# Altium integrated library Silicon Labs Clocks and Oscillators.IntLib: 678 symbols (part 44 of 45)
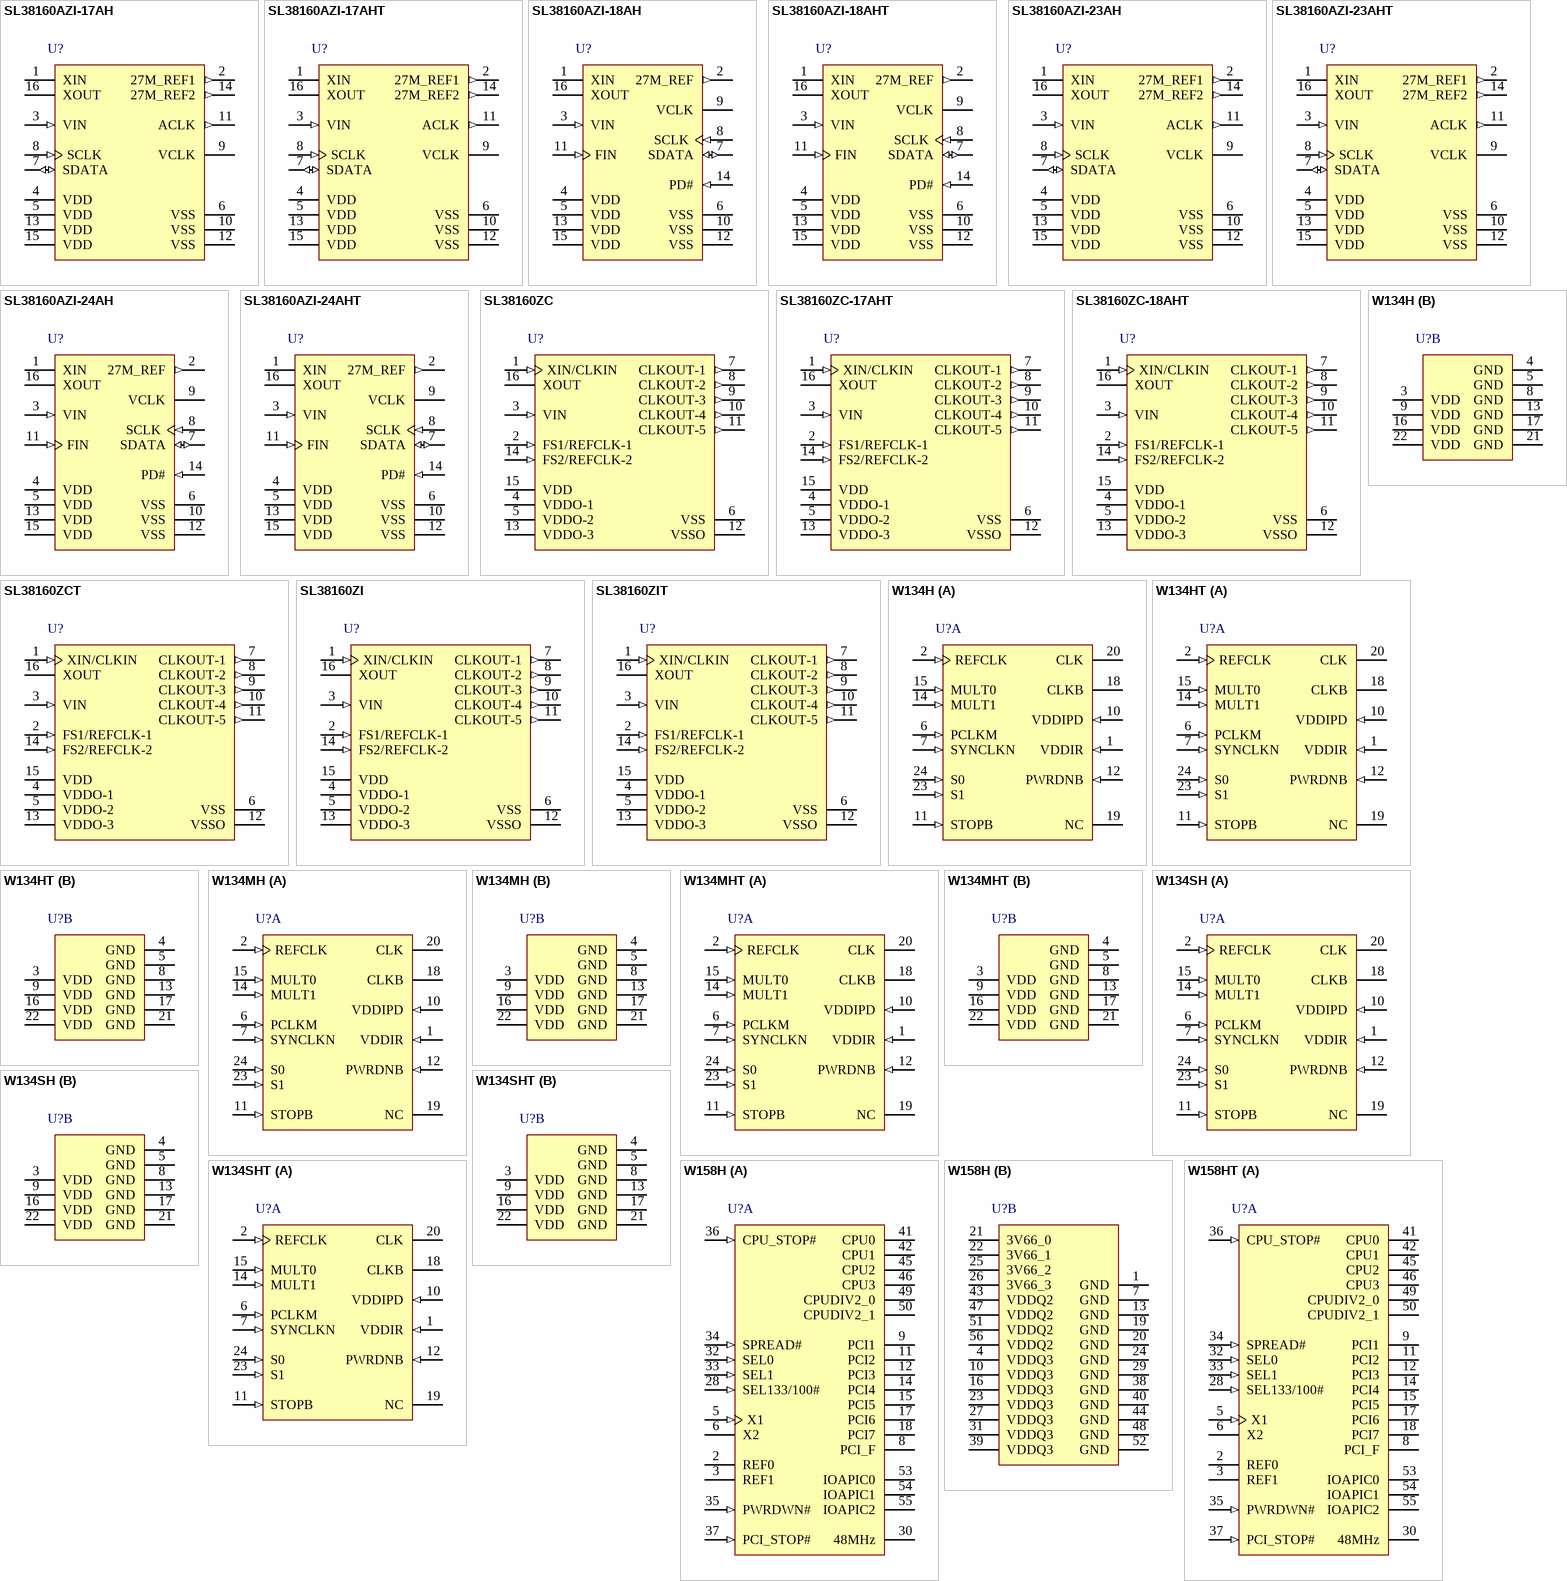
[diagram p87: symbols SL38160AZI-17AH to W158HT]

## SL38160AZI-18AHT
designator U?
Programmable Video CG with VCXO, 3.3 V, 200 MHz Max Output, -40 to 85 degC, 16-pin SOP, Tape and Reel; Manufacturer: Silicon Labs; PartNumber: SL38160AZI-18AHT; Output Format: LVCMOS; Output Frequency (MHz): 25 to 200; 27; Phase Jitter (RMS): > 1 ps; Reference Inputs: 2; VDD: 3.3 V; Sub-Family: Clock Generators; DatasheetVersion: Rev. AB; PackageReference: TSSOP-16; PackageDescription: 16-Pin Thin Shrink Small-Outline Package, Body 5 x 4.4 mm, Pitch 0.65 mm; Packing: Tape and Reel; Mounting Technology: Surface Mount; Code_JEDEC: MO-153; Code_IPC: J-STD-020C; ComponentLink1Description: Manufacturer URL; ComponentLink1URL: http://www.silabs.com/; ComponentLink2Description: Datasheet; ComponentLink2URL: http://www.silabs.com/Support%20Documents/TechnicalDocs/SL38160-18.pdf; ComponentLink3Description: Package Specification; ComponentLink3URL: http://www.silabs.com/Support%20Documents/TechnicalDocs/Si53360.pdf
footprint SLAB-TSSOP-16_N (SOP, 16-Leads, Body 5.1x4.5mm, Pitch 0.65mm, IPC Medium Density)
footprint SLAB-TSSOP-16_L (SOP, 16-Leads, Body 5.1x4.5mm, Pitch 0.65mm, IPC High Density)
footprint SLAB-TSSOP-16_M (SOP, 16-Leads, Body 5.1x4.5mm, Pitch 0.65mm, IPC Low Density)
pins: 1 XIN "Crystal oscillator input. Use fundamental parallel mode 27MHz crystal.", 2 27M_REF (out) "27 MHz reference clock output.", 3 VIN (in) "VCXO frequency control voltage", 4 VDD (power) "3.3V +/-10% Positive Power Supply.", 5 VDD (power) "3.3V +/-10% Positive Power Supply.", 6 VSS (power) "Power supply ground for VDD.", 7 SDATA (io) "I2C Serial Data", 8 SCLK (in) "I2C Clock", 9 VCLK (hiz) "Video clock output. (Default on) (Can be changed to off/high impedance state through I2C)", 10 VSS (power) "Power supply ground for VDD.", 11 FIN (in) "External 27 MHz reference clock input. (Crystal mode or external clock mode controlled through I2C)", 12 VSS (power) "Power supply ground for VDD.", 13 VDD (power) "3.3V +/-10% Positive Power Supply.", 14 PD# (in) "Power down control. 1 = normal operation, 0 = power down mode, all output clocks in low state. This pin features a 250 kohm pullup resistor.", 15 VDD (power) "3.3V +/-10% Positive Power Supply.", 16 XOUT "Crystal oscillator output. Use fundamental parallel mode 27MHz crystal."

## SL38160AZI-23AH
designator U?
Programmable Audio / Video CG with VCXO, 3.3 V, 27 MHz Max Output, -40 to 85 degC, 16-pin SOP, Tube; Manufacturer: Silicon Labs; PartNumber: SL38160AZI-23AH; Output Format: LVCMOS; Output Frequency (MHz): 8.19 to 49.15; 13.5 to 148.5; 27; Phase Jitter (RMS): > 1 ps; Reference Inputs: 1; VDD: 3.3 V; Sub-Family: Clock Generators; DatasheetVersion: Rev. AB; PackageReference: TSSOP-16; PackageDescription: 16-Pin Thin Shrink Small-Outline Package, Body 5 x 4.4 mm, Pitch 0.65 mm; Supplier 1: Mouser; Supplier Part Number 1: N/A; Packing: Tube; Mounting Technology: Surface Mount; Code_JEDEC: MO-153; Code_IPC: J-STD-020C; ComponentLink1Description: Manufacturer URL; ComponentLink1URL: http://www.silabs.com/; ComponentLink2Description: Datasheet; ComponentLink2URL: http://www.silabs.com/Support%20Documents/TechnicalDocs/SL38160-17.pdf; ComponentLink3Description: Package Specification; ComponentLink3URL: http://www.silabs.com/Support%20Documents/TechnicalDocs/Si53360.pdf
footprint SLAB-TSSOP-16_N (SOP, 16-Leads, Body 5.1x4.5mm, Pitch 0.65mm, IPC Medium Density)
footprint SLAB-TSSOP-16_L (SOP, 16-Leads, Body 5.1x4.5mm, Pitch 0.65mm, IPC High Density)
footprint SLAB-TSSOP-16_M (SOP, 16-Leads, Body 5.1x4.5mm, Pitch 0.65mm, IPC Low Density)
pins: 1 XIN "Crystal oscillator input. Use fundamental parallel mode 27MHz crystal.", 2 27M_REF1 (out) "27 MHz reference clock output 1. (Default on) (Can be changed to off/synchronous stop, pulled low to VSS, through I2C)", 3 VIN (in) "VCXO frequency control voltage", 4 VDD (power) "3.3V +/-10% Positive Power Supply.", 5 VDD (power) "3.3V +/-10% Positive Power Supply.", 6 VSS (power) "Power supply ground for VDD.", 7 SDATA (io) "I2C Serial Data", 8 SCLK (in) "I2C Clock", 9 VCLK (hiz) "Video clock output. (Default on) (Can be changed to off/high impedance state through I2C)", 10 VSS (power) "Power supply ground for VDD.", 11 ACLK (out) "Audio clock output .(Default on) (Can be changed to off/synchronous stop, pulled low to VSS, through I2C)", 12 VSS (power) "Power supply ground for VDD.", 13 VDD (power) "3.3V +/-10% Positive Power Supply.", 14 27M_REF2 (out) "27 MHz reference clock output 2. (Default on) (Can be changed to off/synchronous stop, pulled low to VSS, through I2C)", 15 VDD (power) "3.3V +/-10% Positive Power Supply.", 16 XOUT "Crystal oscillator output. Use fundamental parallel mode 27MHz crystal."

## SL38160AZI-23AHT
designator U?
Programmable Audio / Video CG with VCXO, 3.3 V, 27 MHz Max Output, -40 to 85 degC, 16-pin SOP, Tape and Reel; Manufacturer: Silicon Labs; PartNumber: SL38160AZI-23AHT; Output Format: LVCMOS; Output Frequency (MHz): 8.19 to 49.15; 13.5 to 148.5; 27; Phase Jitter (RMS): > 1 ps; Reference Inputs: 1; VDD: 3.3 V; Sub-Family: Clock Generators; DatasheetVersion: Rev. AB; PackageReference: TSSOP-16; PackageDescription: 16-Pin Thin Shrink Small-Outline Package, Body 5 x 4.4 mm, Pitch 0.65 mm; Supplier 1: Mouser; Supplier Part Number 1: N/A; Packing: Tape and Reel; Mounting Technology: Surface Mount; Code_JEDEC: MO-153; Code_IPC: J-STD-020C; ComponentLink1Description: Manufacturer URL; ComponentLink1URL: http://www.silabs.com/; ComponentLink2Description: Datasheet; ComponentLink2URL: http://www.silabs.com/Support%20Documents/TechnicalDocs/SL38160-17.pdf; ComponentLink3Description: Package Specification; ComponentLink3URL: http://www.silabs.com/Support%20Documents/TechnicalDocs/Si53360.pdf
footprint SLAB-TSSOP-16_N (SOP, 16-Leads, Body 5.1x4.5mm, Pitch 0.65mm, IPC Medium Density)
footprint SLAB-TSSOP-16_L (SOP, 16-Leads, Body 5.1x4.5mm, Pitch 0.65mm, IPC High Density)
footprint SLAB-TSSOP-16_M (SOP, 16-Leads, Body 5.1x4.5mm, Pitch 0.65mm, IPC Low Density)
pins: 1 XIN "Crystal oscillator input. Use fundamental parallel mode 27MHz crystal.", 2 27M_REF1 (out) "27 MHz reference clock output 1. (Default on) (Can be changed to off/synchronous stop, pulled low to VSS, through I2C)", 3 VIN (in) "VCXO frequency control voltage", 4 VDD (power) "3.3V +/-10% Positive Power Supply.", 5 VDD (power) "3.3V +/-10% Positive Power Supply.", 6 VSS (power) "Power supply ground for VDD.", 7 SDATA (io) "I2C Serial Data", 8 SCLK (in) "I2C Clock", 9 VCLK (hiz) "Video clock output. (Default on) (Can be changed to off/high impedance state through I2C)", 10 VSS (power) "Power supply ground for VDD.", 11 ACLK (out) "Audio clock output .(Default on) (Can be changed to off/synchronous stop, pulled low to VSS, through I2C)", 12 VSS (power) "Power supply ground for VDD.", 13 VDD (power) "3.3V +/-10% Positive Power Supply.", 14 27M_REF2 (out) "27 MHz reference clock output 2. (Default on) (Can be changed to off/synchronous stop, pulled low to VSS, through I2C)", 15 VDD (power) "3.3V +/-10% Positive Power Supply.", 16 XOUT "Crystal oscillator output. Use fundamental parallel mode 27MHz crystal."

## SL38160AZI-24AH
designator U?
Programmable Video CG with VCXO, 3.3 V, 200 MHz Max Output, -40 to 85 degC, 16-pin SOP, Tube; Manufacturer: Silicon Labs; PartNumber: SL38160AZI-24AH; Output Format: LVCMOS; Output Frequency (MHz): 25 to 200; 27; Phase Jitter (RMS): > 1 ps; Reference Inputs: 2; VDD: 3.3 V; Sub-Family: Clock Generators; DatasheetVersion: Rev. AB; PackageReference: TSSOP-16; PackageDescription: 16-Pin Thin Shrink Small-Outline Package, Body 5 x 4.4 mm, Pitch 0.65 mm; Packing: Tube; Mounting Technology: Surface Mount; Code_JEDEC: MO-153; Code_IPC: J-STD-020C; ComponentLink1Description: Manufacturer URL; ComponentLink1URL: http://www.silabs.com/; ComponentLink2Description: Datasheet; ComponentLink2URL: http://www.silabs.com/Support%20Documents/TechnicalDocs/SL38160-18.pdf; ComponentLink3Description: Package Specification; ComponentLink3URL: http://www.silabs.com/Support%20Documents/TechnicalDocs/Si53360.pdf
footprint SLAB-TSSOP-16_N (SOP, 16-Leads, Body 5.1x4.5mm, Pitch 0.65mm, IPC Medium Density)
footprint SLAB-TSSOP-16_L (SOP, 16-Leads, Body 5.1x4.5mm, Pitch 0.65mm, IPC High Density)
footprint SLAB-TSSOP-16_M (SOP, 16-Leads, Body 5.1x4.5mm, Pitch 0.65mm, IPC Low Density)
pins: 1 XIN "Crystal oscillator input. Use fundamental parallel mode 27MHz crystal.", 2 27M_REF (out) "27 MHz reference clock output.", 3 VIN (in) "VCXO frequency control voltage", 4 VDD (power) "3.3V +/-10% Positive Power Supply.", 5 VDD (power) "3.3V +/-10% Positive Power Supply.", 6 VSS (power) "Power supply ground for VDD.", 7 SDATA (io) "I2C Serial Data", 8 SCLK (in) "I2C Clock", 9 VCLK (hiz) "Video clock output. (Default on) (Can be changed to off/high impedance state through I2C)", 10 VSS (power) "Power supply ground for VDD.", 11 FIN (in) "External 27 MHz reference clock input. (Crystal mode or external clock mode controlled through I2C)", 12 VSS (power) "Power supply ground for VDD.", 13 VDD (power) "3.3V +/-10% Positive Power Supply.", 14 PD# (in) "Power down control. 1 = normal operation, 0 = power down mode, all output clocks in low state. This pin features a 250 kohm pullup resistor.", 15 VDD (power) "3.3V +/-10% Positive Power Supply.", 16 XOUT "Crystal oscillator output. Use fundamental parallel mode 27MHz crystal."

## SL38160AZI-24AHT
designator U?
Programmable Video CG with VCXO, 3.3 V, 200 MHz Max Output, -40 to 85 degC, 16-pin SOP, Tape and Reel; Manufacturer: Silicon Labs; PartNumber: SL38160AZI-24AHT; Output Format: LVCMOS; Output Frequency (MHz): 25 to 200; 27; Phase Jitter (RMS): > 1 ps; Reference Inputs: 2; VDD: 3.3 V; Sub-Family: Clock Generators; DatasheetVersion: Rev. AB; PackageReference: TSSOP-16; PackageDescription: 16-Pin Thin Shrink Small-Outline Package, Body 5 x 4.4 mm, Pitch 0.65 mm; Packing: Tape and Reel; Mounting Technology: Surface Mount; Code_JEDEC: MO-153; Code_IPC: J-STD-020C; ComponentLink1Description: Manufacturer URL; ComponentLink1URL: http://www.silabs.com/; ComponentLink2Description: Datasheet; ComponentLink2URL: http://www.silabs.com/Support%20Documents/TechnicalDocs/SL38160-18.pdf; ComponentLink3Description: Package Specification; ComponentLink3URL: http://www.silabs.com/Support%20Documents/TechnicalDocs/Si53360.pdf
footprint SLAB-TSSOP-16_N (SOP, 16-Leads, Body 5.1x4.5mm, Pitch 0.65mm, IPC Medium Density)
footprint SLAB-TSSOP-16_L (SOP, 16-Leads, Body 5.1x4.5mm, Pitch 0.65mm, IPC High Density)
footprint SLAB-TSSOP-16_M (SOP, 16-Leads, Body 5.1x4.5mm, Pitch 0.65mm, IPC Low Density)
pins: 1 XIN "Crystal oscillator input. Use fundamental parallel mode 27MHz crystal.", 2 27M_REF (out) "27 MHz reference clock output.", 3 VIN (in) "VCXO frequency control voltage", 4 VDD (power) "3.3V +/-10% Positive Power Supply.", 5 VDD (power) "3.3V +/-10% Positive Power Supply.", 6 VSS (power) "Power supply ground for VDD.", 7 SDATA (io) "I2C Serial Data", 8 SCLK (in) "I2C Clock", 9 VCLK (hiz) "Video clock output. (Default on) (Can be changed to off/high impedance state through I2C)", 10 VSS (power) "Power supply ground for VDD.", 11 FIN (in) "External 27 MHz reference clock input. (Crystal mode or external clock mode controlled through I2C)", 12 VSS (power) "Power supply ground for VDD.", 13 VDD (power) "3.3V +/-10% Positive Power Supply.", 14 PD# (in) "Power down control. 1 = normal operation, 0 = power down mode, all output clocks in low state. This pin features a 250 kohm pullup resistor.", 15 VDD (power) "3.3V +/-10% Positive Power Supply.", 16 XOUT "Crystal oscillator output. Use fundamental parallel mode 27MHz crystal."

## SL38160ZC
designator U?
Programmable 4-PLL CG with VCXO and SSCG, 1.8 / 2.5 / 3.3 V, 3 to 200 MHz Output, 0 to 70 degC, 16-pin SOP, Tube; Manufacturer: Silicon Labs; PartNumber: SL38160ZC; Output Format: LVCMOS; Output Frequency (MHz): 3 to 200; Phase Jitter (RMS): > 1 ps; Reference Inputs: 1; VDD: 1.8 V; 2.5 V; 3.3 V; Sub-Family: Clock Generators part3; DatasheetVersion: Rev. 1.1; PackageReference: TSSOP-16; PackageDescription: 16-Pin Thin Shrink Small-Outline Package, Body 5 x 4.4 mm, Pitch 0.65 mm; Supplier 1: Digi-Key; Supplier Part Number 1: SL38160ZC-ND; Supplier 2: Mouser; Supplier Part Number 2: 634-SL38160ZC; Packing: Tube; Mounting Technology: Surface Mount; ComponentLink1Description: Manufacturer URL; ComponentLink1URL: http://www.silabs.com/; ComponentLink2Description: Datasheet; ComponentLink2URL: http://www.silabs.com/Support%20Documents/TechnicalDocs/SL38160.pdf; ComponentLink3Description: Package Specification; ComponentLink3URL: http://www.silabs.com/Support%20Documents/TechnicalDocs/SL38160.pdf
footprint SLAB-TSSOP-16_B_N (SOP, 16-Leads, Body 5.1x4.5mm, Pitch 0.65mm, IPC Medium Density)
footprint SLAB-TSSOP-16_B_L (SOP, 16-Leads, Body 5.1x4.5mm, Pitch 0.65mm, IPC High Density)
footprint SLAB-TSSOP-16_B_M (SOP, 16-Leads, Body 5.1x4.5mm, Pitch 0.65mm, IPC Low Density)
pins: 1 XIN/CLKIN (in) "Crystal oscillator input in VCXO and Xo mode or external clock input in XO mode only. Oscillator powered by VDD.", 2 FS1/REFCLK-1 (in) "OE (output Enable).", 3 VIN (in) "VCXO control pin VIN. This pin is not used and is not connected (n/c) in crystal oscillator mode.", 4 VDDO-1 (power) "3.3V to 2.5V +/-10% Positive Power Supply. VDDO-1 powers clock output drivers for CLKOUT1/2. VDD>=VDDO.", 5 VDDO-2 (power) "3.3V to 2.5V +/-10% Positive Power Supply. VDDO-1 powers clock output driver for CLKOUT3. VDD>=VDDO.", 6 VSS (power) "VDD power ground.", 7 CLKOUT-1 (out) "Programmable clock output-1, this pin can be programmed as synthesized clock output with or without spread or REFOUT and is powered by VDD-1.", 8 CLKOUT-2 (out) "Programmable clock output-2, this pin can be programmed as synthesized clock output with or without spread or REFOUT and powered by VDDO-1.", 9 CLKOUT-3 (out) "Programmable clock output-3, this pin can be programmed as synthesized clock output with or without spread or REFOUT and powered by VDDO-2.", 10 CLKOUT-4 (out) "Programmable clock output-4, this pin can be programmed as synthesized clock output with or without spread or REFOUT and powered by VDDO-3.", 11 CLKOUT-5 (out) "Programmable clock output-5, this pin can be programmed as synthesized clock output with or without spread or REFOUT and powered by VDDO-3.", 12 VSSO (power) "VDDO-1/2/3 power ground.", 13 VDDO-3 (power) "3.3V to 2.5V +/-10% Positive Power Supply. VDD-2 powers clock output drivers for CLKOUT4/5. VDD>=VDDO.", 14 FS2/REFCLK-2 (in) "Function Select FS2 input. This pin can be programmed in XO mode as REFCLK which is the buffered output of input crystal or CLKIN.", 15 VDD (power) "3.3V to 2.5V +/-10% Positive Power Supply. Powers only digital core, PLLs and oscillator.", 16 XOUT "Crystal oscillator output. Oscillator powered by VDD."

## SL38160ZC-17AHT
designator U?
Programmable 4-PLL CG with VCXO and SSCG, 1.8 / 2.5 / 3.3 V, 3 to 200 MHz Output, 0 to 70 degC, 16-pin SOP, Tape and Reel; Manufacturer: Silicon Labs; PartNumber: SL38160ZC-17AHT; Output Format: LVCMOS; Output Frequency (MHz): 3 to 200; Phase Jitter (RMS): > 1 ps; Reference Inputs: 1; VDD: 1.8 V; 2.5 V; 3.3 V; Sub-Family: Clock Generators part3; DatasheetVersion: Rev. 1.1; PackageReference: TSSOP-16; PackageDescription: 16-Pin Thin Shrink Small-Outline Package, Body 5 x 4.4 mm, Pitch 0.65 mm; Supplier 1: Mouser; Supplier Part Number 1: 634-SL38160ZC-17AHT; Packing: Tape and Reel; Mounting Technology: Surface Mount; ComponentLink1Description: Manufacturer URL; ComponentLink1URL: http://www.silabs.com/; ComponentLink2Description: Datasheet; ComponentLink2URL: http://www.silabs.com/Support%20Documents/TechnicalDocs/SL38160.pdf; ComponentLink3Description: Package Specification; ComponentLink3URL: http://www.silabs.com/Support%20Documents/TechnicalDocs/SL38160.pdf
footprint SLAB-TSSOP-16_B_N (SOP, 16-Leads, Body 5.1x4.5mm, Pitch 0.65mm, IPC Medium Density)
footprint SLAB-TSSOP-16_B_L (SOP, 16-Leads, Body 5.1x4.5mm, Pitch 0.65mm, IPC High Density)
footprint SLAB-TSSOP-16_B_M (SOP, 16-Leads, Body 5.1x4.5mm, Pitch 0.65mm, IPC Low Density)
pins: 1 XIN/CLKIN (in) "Crystal oscillator input in VCXO and Xo mode or external clock input in XO mode only. Oscillator powered by VDD.", 2 FS1/REFCLK-1 (in) "OE (output Enable).", 3 VIN (in) "VCXO control pin VIN. This pin is not used and is not connected (n/c) in crystal oscillator mode.", 4 VDDO-1 (power) "3.3V to 2.5V +/-10% Positive Power Supply. VDDO-1 powers clock output drivers for CLKOUT1/2. VDD>=VDDO.", 5 VDDO-2 (power) "3.3V to 2.5V +/-10% Positive Power Supply. VDDO-1 powers clock output driver for CLKOUT3. VDD>=VDDO.", 6 VSS (power) "VDD power ground.", 7 CLKOUT-1 (out) "Programmable clock output-1, this pin can be programmed as synthesized clock output with or without spread or REFOUT and is powered by VDD-1.", 8 CLKOUT-2 (out) "Programmable clock output-2, this pin can be programmed as synthesized clock output with or without spread or REFOUT and powered by VDDO-1.", 9 CLKOUT-3 (out) "Programmable clock output-3, this pin can be programmed as synthesized clock output with or without spread or REFOUT and powered by VDDO-2.", 10 CLKOUT-4 (out) "Programmable clock output-4, this pin can be programmed as synthesized clock output with or without spread or REFOUT and powered by VDDO-3.", 11 CLKOUT-5 (out) "Programmable clock output-5, this pin can be programmed as synthesized clock output with or without spread or REFOUT and powered by VDDO-3.", 12 VSSO (power) "VDDO-1/2/3 power ground.", 13 VDDO-3 (power) "3.3V to 2.5V +/-10% Positive Power Supply. VDD-2 powers clock output drivers for CLKOUT4/5. VDD>=VDDO.", 14 FS2/REFCLK-2 (in) "Function Select FS2 input. This pin can be programmed in XO mode as REFCLK which is the buffered output of input crystal or CLKIN.", 15 VDD (power) "3.3V to 2.5V +/-10% Positive Power Supply. Powers only digital core, PLLs and oscillator.", 16 XOUT "Crystal oscillator output. Oscillator powered by VDD."

## SL38160ZC-18AHT
designator U?
Programmable 4-PLL CG with VCXO and SSCG, 1.8 / 2.5 / 3.3 V, 3 to 200 MHz Output, 0 to 70 degC, 16-pin SOP, Tape and Reel; Manufacturer: Silicon Labs; PartNumber: SL38160ZC-18AHT; Output Format: LVCMOS; Output Frequency (MHz): 3 to 200; Phase Jitter (RMS): > 1 ps; Reference Inputs: 1; VDD: 1.8 V; 2.5 V; 3.3 V; Sub-Family: Clock Generators part3; DatasheetVersion: Rev. 1.1; PackageReference: TSSOP-16; PackageDescription: 16-Pin Thin Shrink Small-Outline Package, Body 5 x 4.4 mm, Pitch 0.65 mm; Supplier 1: Mouser; Supplier Part Number 1: 634-SL38160ZC-18AHT; Packing: Tape and Reel; Mounting Technology: Surface Mount; ComponentLink1Description: Manufacturer URL; ComponentLink1URL: http://www.silabs.com/; ComponentLink2Description: Datasheet; ComponentLink2URL: http://www.silabs.com/Support%20Documents/TechnicalDocs/SL38160.pdf; ComponentLink3Description: Package Specification; ComponentLink3URL: http://www.silabs.com/Support%20Documents/TechnicalDocs/SL38160.pdf
footprint SLAB-TSSOP-16_B_N (SOP, 16-Leads, Body 5.1x4.5mm, Pitch 0.65mm, IPC Medium Density)
footprint SLAB-TSSOP-16_B_L (SOP, 16-Leads, Body 5.1x4.5mm, Pitch 0.65mm, IPC High Density)
footprint SLAB-TSSOP-16_B_M (SOP, 16-Leads, Body 5.1x4.5mm, Pitch 0.65mm, IPC Low Density)
pins: 1 XIN/CLKIN (in) "Crystal oscillator input in VCXO and Xo mode or external clock input in XO mode only. Oscillator powered by VDD.", 2 FS1/REFCLK-1 (in) "OE (output Enable).", 3 VIN (in) "VCXO control pin VIN. This pin is not used and is not connected (n/c) in crystal oscillator mode.", 4 VDDO-1 (power) "3.3V to 2.5V +/-10% Positive Power Supply. VDDO-1 powers clock output drivers for CLKOUT1/2. VDD>=VDDO.", 5 VDDO-2 (power) "3.3V to 2.5V +/-10% Positive Power Supply. VDDO-1 powers clock output driver for CLKOUT3. VDD>=VDDO.", 6 VSS (power) "VDD power ground.", 7 CLKOUT-1 (out) "Programmable clock output-1, this pin can be programmed as synthesized clock output with or without spread or REFOUT and is powered by VDD-1.", 8 CLKOUT-2 (out) "Programmable clock output-2, this pin can be programmed as synthesized clock output with or without spread or REFOUT and powered by VDDO-1.", 9 CLKOUT-3 (out) "Programmable clock output-3, this pin can be programmed as synthesized clock output with or without spread or REFOUT and powered by VDDO-2.", 10 CLKOUT-4 (out) "Programmable clock output-4, this pin can be programmed as synthesized clock output with or without spread or REFOUT and powered by VDDO-3.", 11 CLKOUT-5 (out) "Programmable clock output-5, this pin can be programmed as synthesized clock output with or without spread or REFOUT and powered by VDDO-3.", 12 VSSO (power) "VDDO-1/2/3 power ground.", 13 VDDO-3 (power) "3.3V to 2.5V +/-10% Positive Power Supply. VDD-2 powers clock output drivers for CLKOUT4/5. VDD>=VDDO.", 14 FS2/REFCLK-2 (in) "Function Select FS2 input. This pin can be programmed in XO mode as REFCLK which is the buffered output of input crystal or CLKIN.", 15 VDD (power) "3.3V to 2.5V +/-10% Positive Power Supply. Powers only digital core, PLLs and oscillator.", 16 XOUT "Crystal oscillator output. Oscillator powered by VDD."

## SL38160ZCT
designator U?
Programmable 4-PLL CG with VCXO and SSCG, 1.8 / 2.5 / 3.3 V, 3 to 200 MHz Output, 0 to 70 degC, 16-pin SOP, Tape and Reel; Manufacturer: Silicon Labs; PartNumber: SL38160ZCT; Output Format: LVCMOS; Output Frequency (MHz): 3 to 200; Phase Jitter (RMS): > 1 ps; Reference Inputs: 1; VDD: 1.8 V; 2.5 V; 3.3 V; Sub-Family: Clock Generators part3; DatasheetVersion: Rev. 1.1; PackageReference: TSSOP-16; PackageDescription: 16-Pin Thin Shrink Small-Outline Package, Body 5 x 4.4 mm, Pitch 0.65 mm; Supplier 1: Digi-Key; Supplier Part Number 1: SL38160ZCT-ND; Supplier 2: Mouser; Supplier Part Number 2: 634-SL38160ZCT; Packing: Tape and Reel; Mounting Technology: Surface Mount; ComponentLink1Description: Manufacturer URL; ComponentLink1URL: http://www.silabs.com/; ComponentLink2Description: Datasheet; ComponentLink2URL: http://www.silabs.com/Support%20Documents/TechnicalDocs/SL38160.pdf; ComponentLink3Description: Package Specification; ComponentLink3URL: http://www.silabs.com/Support%20Documents/TechnicalDocs/SL38160.pdf
footprint SLAB-TSSOP-16_B_N (SOP, 16-Leads, Body 5.1x4.5mm, Pitch 0.65mm, IPC Medium Density)
footprint SLAB-TSSOP-16_B_L (SOP, 16-Leads, Body 5.1x4.5mm, Pitch 0.65mm, IPC High Density)
footprint SLAB-TSSOP-16_B_M (SOP, 16-Leads, Body 5.1x4.5mm, Pitch 0.65mm, IPC Low Density)
pins: 1 XIN/CLKIN (in) "Crystal oscillator input in VCXO and Xo mode or external clock input in XO mode only. Oscillator powered by VDD.", 2 FS1/REFCLK-1 (in) "OE (output Enable).", 3 VIN (in) "VCXO control pin VIN. This pin is not used and is not connected (n/c) in crystal oscillator mode.", 4 VDDO-1 (power) "3.3V to 2.5V +/-10% Positive Power Supply. VDDO-1 powers clock output drivers for CLKOUT1/2. VDD>=VDDO.", 5 VDDO-2 (power) "3.3V to 2.5V +/-10% Positive Power Supply. VDDO-1 powers clock output driver for CLKOUT3. VDD>=VDDO.", 6 VSS (power) "VDD power ground.", 7 CLKOUT-1 (out) "Programmable clock output-1, this pin can be programmed as synthesized clock output with or without spread or REFOUT and is powered by VDD-1.", 8 CLKOUT-2 (out) "Programmable clock output-2, this pin can be programmed as synthesized clock output with or without spread or REFOUT and powered by VDDO-1.", 9 CLKOUT-3 (out) "Programmable clock output-3, this pin can be programmed as synthesized clock output with or without spread or REFOUT and powered by VDDO-2.", 10 CLKOUT-4 (out) "Programmable clock output-4, this pin can be programmed as synthesized clock output with or without spread or REFOUT and powered by VDDO-3.", 11 CLKOUT-5 (out) "Programmable clock output-5, this pin can be programmed as synthesized clock output with or without spread or REFOUT and powered by VDDO-3.", 12 VSSO (power) "VDDO-1/2/3 power ground.", 13 VDDO-3 (power) "3.3V to 2.5V +/-10% Positive Power Supply. VDD-2 powers clock output drivers for CLKOUT4/5. VDD>=VDDO.", 14 FS2/REFCLK-2 (in) "Function Select FS2 input. This pin can be programmed in XO mode as REFCLK which is the buffered output of input crystal or CLKIN.", 15 VDD (power) "3.3V to 2.5V +/-10% Positive Power Supply. Powers only digital core, PLLs and oscillator.", 16 XOUT "Crystal oscillator output. Oscillator powered by VDD."

## SL38160ZI
designator U?
Programmable 4-PLL CG with VCXO and SSCG, 1.8 / 2.5 / 3.3 V, 3 to 200 MHz Output, -40 to 85 degC, 16-pin SOP, Tube; Manufacturer: Silicon Labs; PartNumber: SL38160ZI; Output Format: LVCMOS; Output Frequency (MHz): 3 to 200; Phase Jitter (RMS): > 1 ps; Reference Inputs: 1; VDD: 1.8 V; 2.5 V; 3.3 V; Sub-Family: Clock Generators part3; DatasheetVersion: Rev. 1.1; PackageReference: TSSOP-16; PackageDescription: 16-Pin Thin Shrink Small-Outline Package, Body 5 x 4.4 mm, Pitch 0.65 mm; Supplier 1: Digi-Key; Supplier Part Number 1: SL38160ZI-ND; Supplier 2: Mouser; Supplier Part Number 2: 634-SL38160ZI; Packing: Tube; Mounting Technology: Surface Mount; ComponentLink1Description: Manufacturer URL; ComponentLink1URL: http://www.silabs.com/; ComponentLink2Description: Datasheet; ComponentLink2URL: http://www.silabs.com/Support%20Documents/TechnicalDocs/SL38160.pdf; ComponentLink3Description: Package Specification; ComponentLink3URL: http://www.silabs.com/Support%20Documents/TechnicalDocs/SL38160.pdf
footprint SLAB-TSSOP-16_B_N (SOP, 16-Leads, Body 5.1x4.5mm, Pitch 0.65mm, IPC Medium Density)
footprint SLAB-TSSOP-16_B_L (SOP, 16-Leads, Body 5.1x4.5mm, Pitch 0.65mm, IPC High Density)
footprint SLAB-TSSOP-16_B_M (SOP, 16-Leads, Body 5.1x4.5mm, Pitch 0.65mm, IPC Low Density)
pins: 1 XIN/CLKIN (in) "Crystal oscillator input in VCXO and Xo mode or external clock input in XO mode only. Oscillator powered by VDD.", 2 FS1/REFCLK-1 (in) "OE (output Enable).", 3 VIN (in) "VCXO control pin VIN. This pin is not used and is not connected (n/c) in crystal oscillator mode.", 4 VDDO-1 (power) "3.3V to 2.5V +/-10% Positive Power Supply. VDDO-1 powers clock output drivers for CLKOUT1/2. VDD>=VDDO.", 5 VDDO-2 (power) "3.3V to 2.5V +/-10% Positive Power Supply. VDDO-1 powers clock output driver for CLKOUT3. VDD>=VDDO.", 6 VSS (power) "VDD power ground.", 7 CLKOUT-1 (out) "Programmable clock output-1, this pin can be programmed as synthesized clock output with or without spread or REFOUT and is powered by VDD-1.", 8 CLKOUT-2 (out) "Programmable clock output-2, this pin can be programmed as synthesized clock output with or without spread or REFOUT and powered by VDDO-1.", 9 CLKOUT-3 (out) "Programmable clock output-3, this pin can be programmed as synthesized clock output with or without spread or REFOUT and powered by VDDO-2.", 10 CLKOUT-4 (out) "Programmable clock output-4, this pin can be programmed as synthesized clock output with or without spread or REFOUT and powered by VDDO-3.", 11 CLKOUT-5 (out) "Programmable clock output-5, this pin can be programmed as synthesized clock output with or without spread or REFOUT and powered by VDDO-3.", 12 VSSO (power) "VDDO-1/2/3 power ground.", 13 VDDO-3 (power) "3.3V to 2.5V +/-10% Positive Power Supply. VDD-2 powers clock output drivers for CLKOUT4/5. VDD>=VDDO.", 14 FS2/REFCLK-2 (in) "Function Select FS2 input. This pin can be programmed in XO mode as REFCLK which is the buffered output of input crystal or CLKIN.", 15 VDD (power) "3.3V to 2.5V +/-10% Positive Power Supply. Powers only digital core, PLLs and oscillator.", 16 XOUT "Crystal oscillator output. Oscillator powered by VDD."

## SL38160ZIT
designator U?
Programmable 4-PLL CG with VCXO and SSCG, 1.8 / 2.5 / 3.3 V, 3 to 200 MHz Output, -40 to 85 degC, 16-pin SOP, Tape and Reel; Manufacturer: Silicon Labs; PartNumber: SL38160ZIT; Output Format: LVCMOS; Output Frequency (MHz): 3 to 200; Phase Jitter (RMS): > 1 ps; Reference Inputs: 1; VDD: 1.8 V; 2.5 V; 3.3 V; Sub-Family: Clock Generators part3; DatasheetVersion: Rev. 1.1; PackageReference: TSSOP-16; PackageDescription: 16-Pin Thin Shrink Small-Outline Package, Body 5 x 4.4 mm, Pitch 0.65 mm; Supplier 1: Digi-Key; Supplier Part Number 1: SL38160ZIT-ND; Supplier 2: Mouser; Supplier Part Number 2: 634-SL38160ZIT; Packing: Tape and Reel; Mounting Technology: Surface Mount; ComponentLink1Description: Manufacturer URL; ComponentLink1URL: http://www.silabs.com/; ComponentLink2Description: Datasheet; ComponentLink2URL: http://www.silabs.com/Support%20Documents/TechnicalDocs/SL38160.pdf; ComponentLink3Description: Package Specification; ComponentLink3URL: http://www.silabs.com/Support%20Documents/TechnicalDocs/SL38160.pdf
footprint SLAB-TSSOP-16_B_N (SOP, 16-Leads, Body 5.1x4.5mm, Pitch 0.65mm, IPC Medium Density)
footprint SLAB-TSSOP-16_B_L (SOP, 16-Leads, Body 5.1x4.5mm, Pitch 0.65mm, IPC High Density)
footprint SLAB-TSSOP-16_B_M (SOP, 16-Leads, Body 5.1x4.5mm, Pitch 0.65mm, IPC Low Density)
pins: 1 XIN/CLKIN (in) "Crystal oscillator input in VCXO and Xo mode or external clock input in XO mode only. Oscillator powered by VDD.", 2 FS1/REFCLK-1 (in) "OE (output Enable).", 3 VIN (in) "VCXO control pin VIN. This pin is not used and is not connected (n/c) in crystal oscillator mode.", 4 VDDO-1 (power) "3.3V to 2.5V +/-10% Positive Power Supply. VDDO-1 powers clock output drivers for CLKOUT1/2. VDD>=VDDO.", 5 VDDO-2 (power) "3.3V to 2.5V +/-10% Positive Power Supply. VDDO-1 powers clock output driver for CLKOUT3. VDD>=VDDO.", 6 VSS (power) "VDD power ground.", 7 CLKOUT-1 (out) "Programmable clock output-1, this pin can be programmed as synthesized clock output with or without spread or REFOUT and is powered by VDD-1.", 8 CLKOUT-2 (out) "Programmable clock output-2, this pin can be programmed as synthesized clock output with or without spread or REFOUT and powered by VDDO-1.", 9 CLKOUT-3 (out) "Programmable clock output-3, this pin can be programmed as synthesized clock output with or without spread or REFOUT and powered by VDDO-2.", 10 CLKOUT-4 (out) "Programmable clock output-4, this pin can be programmed as synthesized clock output with or without spread or REFOUT and powered by VDDO-3.", 11 CLKOUT-5 (out) "Programmable clock output-5, this pin can be programmed as synthesized clock output with or without spread or REFOUT and powered by VDDO-3.", 12 VSSO (power) "VDDO-1/2/3 power ground.", 13 VDDO-3 (power) "3.3V to 2.5V +/-10% Positive Power Supply. VDD-2 powers clock output drivers for CLKOUT4/5. VDD>=VDDO.", 14 FS2/REFCLK-2 (in) "Function Select FS2 input. This pin can be programmed in XO mode as REFCLK which is the buffered output of input crystal or CLKIN.", 15 VDD (power) "3.3V to 2.5V +/-10% Positive Power Supply. Powers only digital core, PLLs and oscillator.", 16 XOUT "Crystal oscillator output. Oscillator powered by VDD."

## W134H
designator U?
Direct Rambus(TM) Clock Generator, 3.3 V, 25 to 400 MHz Output, 0 to 70 degC, 24-pin SOP; Manufacturer: Silicon Labs; PartNumber: W134H; Output Format: RSL; Reference Inputs: 1; VDD: 3.3 V; Sub-Family: Clock Generators; DatasheetVersion: Rev. *C; PackageReference: QSOP-24; PackageDescription: 24-Pin Quarter-Size Small-Outline Package, Body 8.65 x 3.9 mm, Pitch 0.635 mm; Output Frequency (MHz): 25 to 400; Mounting Technology: Surface Mount; ComponentLink1Description: Manufacturer URL; ComponentLink1URL: http://www.silabs.com/; ComponentLink2Description: Datasheet; ComponentLink2URL: http://www.silabs.com/Support%20Documents/TechnicalDocs/W134.pdf; ComponentLink3Description: Package Specification; ComponentLink3URL: http://www.silabs.com/Support%20Documents/TechnicalDocs/W134.pdf
footprint SLAB-QSOP-24_A_N (SOP, 24-Leads, Body 8.7x4mm, Pitch 0.635mm, IPC Medium Density)
footprint SLAB-QSOP-24_A_L (SOP, 24-Leads, Body 8.7x4mm, Pitch 0.635mm, IPC High Density)
footprint SLAB-QSOP-24_A_M (SOP, 24-Leads, Body 8.7x4mm, Pitch 0.635mm, IPC Low Density)
part A pins: 1 VDDIR (in) "Reference for REFCLK.", 2 REFCLK (in) "Reference Clock Input.", 6 PCLKM (in) "Phase Detector Input.", 7 SYNCLKN (in) "Phase Detector Input", 10 VDDIPD (in) "Reference for Phase Detector.", 11 STOPB (in) "Clock Output Enable.", 12 PWRDNB (in) "Active LOW Power-down.", 14 MULT1 (in) "PLL Multiplier Select.", 15 MULT0 (in) "PLL Multiplier Select.", 18 CLKB (hiz) "Complementary Output Clock", 19 NC "No Connect", 20 CLK (hiz) "Complementary Output Clock", 23 S1 (in) "Mode Control Input", 24 S0 (in) "Mode Control Input"
part B pins: 3 VDD (power) "Power Connection", 4 GND (power) "Ground Connection.", 5 GND (power) "Ground Connection.", 8 GND (power) "Ground Connection.", 9 VDD (power) "Power Connection", 13 GND (power) "Ground Connection.", 16 VDD (power) "Power Connection", 17 GND (power) "Ground Connection.", 21 GND (power) "Ground Connection.", 22 VDD (power) "Power Connection"

## W134HT
designator U?
Direct Rambus(TM) Clock Generator, 3.3 V, 25 to 400 MHz Output, 0 to 70 degC, 24-pin SOP, Tape and Reel; Manufacturer: Silicon Labs; PartNumber: W134HT; Output Format: RSL; Phase Jitter (RMS): > 1 ps; Reference Inputs: 1; VDD: 3.3 V; Sub-Family: Clock Generators; DatasheetVersion: Rev. *C; PackageReference: QSOP-24; PackageDescription: 24-Pin Quarter-Size Small-Outline Package, Body 8.65 x 3.9 mm, Pitch 0.635 mm; Output Frequency (MHz): 25 to 400; Packing: Tape and Reel; Mounting Technology: Surface Mount; ComponentLink1Description: Manufacturer URL; ComponentLink1URL: http://www.silabs.com/; ComponentLink2Description: Datasheet; ComponentLink2URL: http://www.silabs.com/Support%20Documents/TechnicalDocs/W134.pdf; ComponentLink3Description: Package Specification; ComponentLink3URL: http://www.silabs.com/Support%20Documents/TechnicalDocs/W134.pdf
footprint SLAB-QSOP-24_A_N (SOP, 24-Leads, Body 8.7x4mm, Pitch 0.635mm, IPC Medium Density)
footprint SLAB-QSOP-24_A_L (SOP, 24-Leads, Body 8.7x4mm, Pitch 0.635mm, IPC High Density)
footprint SLAB-QSOP-24_A_M (SOP, 24-Leads, Body 8.7x4mm, Pitch 0.635mm, IPC Low Density)
part A pins: 1 VDDIR (in) "Reference for REFCLK.", 2 REFCLK (in) "Reference Clock Input.", 6 PCLKM (in) "Phase Detector Input.", 7 SYNCLKN (in) "Phase Detector Input", 10 VDDIPD (in) "Reference for Phase Detector.", 11 STOPB (in) "Clock Output Enable.", 12 PWRDNB (in) "Active LOW Power-down.", 14 MULT1 (in) "PLL Multiplier Select.", 15 MULT0 (in) "PLL Multiplier Select.", 18 CLKB (hiz) "Complementary Output Clock", 19 NC "No Connect", 20 CLK (hiz) "Complementary Output Clock", 23 S1 (in) "Mode Control Input", 24 S0 (in) "Mode Control Input"
part B pins: 3 VDD (power) "Power Connection", 4 GND (power) "Ground Connection.", 5 GND (power) "Ground Connection.", 8 GND (power) "Ground Connection.", 9 VDD (power) "Power Connection", 13 GND (power) "Ground Connection.", 16 VDD (power) "Power Connection", 17 GND (power) "Ground Connection.", 21 GND (power) "Ground Connection.", 22 VDD (power) "Power Connection"

## W134MH
designator U?
Direct Rambus(TM) Clock Generator, 3.3 V, 25 to 400 MHz Output, 0 to 70 degC, 24-pin SOP; Manufacturer: Silicon Labs; PartNumber: W134MH; Output Format: RSL; Reference Inputs: 1; VDD: 3.3 V; Sub-Family: Clock Generators part2; DatasheetVersion: Rev. *C; PackageReference: QSOP-24; PackageDescription: 24-Pin Quarter-Size Small-Outline Package, Body 8.65 x 3.9 mm, Pitch 0.635 mm; Supplier 1: Digi-Key; Supplier Part Number 1: SLW134MH-ND; Supplier 2: Mouser; Supplier Part Number 2: 634-W134MH; Output Frequency (MHz): 25 to 400; Mounting Technology: Surface Mount; Code_JEDEC: MO-147; Code_IPC: J-STD-020; ComponentLink1Description: Manufacturer URL; ComponentLink1URL: http://www.silabs.com/; ComponentLink2Description: Datasheet; ComponentLink2URL: http://www.silabs.com/Support%20Documents/TechnicalDocs/W134.pdf; ComponentLink3Description: Package Specification; ComponentLink3URL: http://www.silabs.com/Support%20Documents/TechnicalDocs/C8051F99x.pdf
footprint SLAB-QSOP-24_N (SOP, 24-Leads, Body 8.65x3.9mm, Pitch 0.635mm, IPC Medium Density)
footprint SLAB-QSOP-24_L (SOP, 24-Leads, Body 8.65x3.9mm, Pitch 0.635mm, IPC High Density)
footprint SLAB-QSOP-24_M (SOP, 24-Leads, Body 8.65x3.9mm, Pitch 0.635mm, IPC Low Density)
part A pins: 1 VDDIR (in) "Reference for REFCLK.", 2 REFCLK (in) "Reference Clock Input.", 6 PCLKM (in) "Phase Detector Input.", 7 SYNCLKN (in) "Phase Detector Input", 10 VDDIPD (in) "Reference for Phase Detector.", 11 STOPB (in) "Clock Output Enable.", 12 PWRDNB (in) "Active LOW Power-down.", 14 MULT1 (in) "PLL Multiplier Select.", 15 MULT0 (in) "PLL Multiplier Select.", 18 CLKB (hiz) "Complementary Output Clock", 19 NC "No Connect", 20 CLK (hiz) "Complementary Output Clock", 23 S1 (in) "Mode Control Input", 24 S0 (in) "Mode Control Input"
part B pins: 3 VDD (power) "Power Connection", 4 GND (power) "Ground Connection.", 5 GND (power) "Ground Connection.", 8 GND (power) "Ground Connection.", 9 VDD (power) "Power Connection", 13 GND (power) "Ground Connection.", 16 VDD (power) "Power Connection", 17 GND (power) "Ground Connection.", 21 GND (power) "Ground Connection.", 22 VDD (power) "Power Connection"

## W134MHT
designator U?
Direct Rambus(TM) Clock Generator, 3.3 V, 25 to 400 MHz Output, 0 to 70 degC, 24-pin SOP, Tape and Reel; Manufacturer: Silicon Labs; PartNumber: W134MHT; Output Format: RSL; Phase Jitter (RMS): > 1 ps; Reference Inputs: 1; VDD: 3.3 V; Sub-Family: Clock Generators part2; DatasheetVersion: Rev. *C; PackageReference: QSOP-24; PackageDescription: 24-Pin Quarter-Size Small-Outline Package, Body 8.65 x 3.9 mm, Pitch 0.635 mm; Supplier 1: Digi-Key; Supplier Part Number 1: W134MHT-ND; Supplier 2: Mouser; Supplier Part Number 2: 634-W134MHT; Output Frequency (MHz): 25 to 400; Packing: Tape and Reel; Mounting Technology: Surface Mount; Code_JEDEC: MO-147; Code_IPC: J-STD-020; ComponentLink1Description: Manufacturer URL; ComponentLink1URL: http://www.silabs.com/; ComponentLink2Description: Datasheet; ComponentLink2URL: http://www.silabs.com/Support%20Documents/TechnicalDocs/W134.pdf; ComponentLink3Description: Package Specification; ComponentLink3URL: http://www.silabs.com/Support%20Documents/TechnicalDocs/C8051F99x.pdf
footprint SLAB-QSOP-24_N (SOP, 24-Leads, Body 8.65x3.9mm, Pitch 0.635mm, IPC Medium Density)
footprint SLAB-QSOP-24_L (SOP, 24-Leads, Body 8.65x3.9mm, Pitch 0.635mm, IPC High Density)
footprint SLAB-QSOP-24_M (SOP, 24-Leads, Body 8.65x3.9mm, Pitch 0.635mm, IPC Low Density)
part A pins: 1 VDDIR (in) "Reference for REFCLK.", 2 REFCLK (in) "Reference Clock Input.", 6 PCLKM (in) "Phase Detector Input.", 7 SYNCLKN (in) "Phase Detector Input", 10 VDDIPD (in) "Reference for Phase Detector.", 11 STOPB (in) "Clock Output Enable.", 12 PWRDNB (in) "Active LOW Power-down.", 14 MULT1 (in) "PLL Multiplier Select.", 15 MULT0 (in) "PLL Multiplier Select.", 18 CLKB (hiz) "Complementary Output Clock", 19 NC "No Connect", 20 CLK (hiz) "Complementary Output Clock", 23 S1 (in) "Mode Control Input", 24 S0 (in) "Mode Control Input"
part B pins: 3 VDD (power) "Power Connection", 4 GND (power) "Ground Connection.", 5 GND (power) "Ground Connection.", 8 GND (power) "Ground Connection.", 9 VDD (power) "Power Connection", 13 GND (power) "Ground Connection.", 16 VDD (power) "Power Connection", 17 GND (power) "Ground Connection.", 21 GND (power) "Ground Connection.", 22 VDD (power) "Power Connection"

## W134SH
designator U?
Direct Rambus(TM) Clock Generator, 3.3 V, 25 to 400 MHz Output, 0 to 70 degC, 24-pin SOP; Manufacturer: Silicon Labs; PartNumber: W134SH; Output Format: RSL; Reference Inputs: 1; VDD: 3.3 V; Sub-Family: Clock Generators; DatasheetVersion: Rev. *C; PackageReference: QSOP-24; PackageDescription: 24-Pin Quarter-Size Small-Outline Package, Body 8.65 x 3.9 mm, Pitch 0.635 mm; Supplier 1: Digi-Key; Supplier Part Number 1: SLW134SH-ND; Supplier 2: Mouser; Supplier Part Number 2: 634-W134SH; Output Frequency (MHz): 25 to 400; Mounting Technology: Surface Mount; ComponentLink1Description: Manufacturer URL; ComponentLink1URL: http://www.silabs.com/; ComponentLink2Description: Datasheet; ComponentLink2URL: http://www.silabs.com/Support%20Documents/TechnicalDocs/W134.pdf; ComponentLink3Description: Package Specification; ComponentLink3URL: http://www.silabs.com/Support%20Documents/TechnicalDocs/W134.pdf
footprint SLAB-QSOP-24_A_N (SOP, 24-Leads, Body 8.7x4mm, Pitch 0.635mm, IPC Medium Density)
footprint SLAB-QSOP-24_A_L (SOP, 24-Leads, Body 8.7x4mm, Pitch 0.635mm, IPC High Density)
footprint SLAB-QSOP-24_A_M (SOP, 24-Leads, Body 8.7x4mm, Pitch 0.635mm, IPC Low Density)
part A pins: 1 VDDIR (in) "Reference for REFCLK.", 2 REFCLK (in) "Reference Clock Input.", 6 PCLKM (in) "Phase Detector Input.", 7 SYNCLKN (in) "Phase Detector Input", 10 VDDIPD (in) "Reference for Phase Detector.", 11 STOPB (in) "Clock Output Enable.", 12 PWRDNB (in) "Active LOW Power-down.", 14 MULT1 (in) "PLL Multiplier Select.", 15 MULT0 (in) "PLL Multiplier Select.", 18 CLKB (hiz) "Complementary Output Clock", 19 NC "No Connect", 20 CLK (hiz) "Complementary Output Clock", 23 S1 (in) "Mode Control Input", 24 S0 (in) "Mode Control Input"
part B pins: 3 VDD (power) "Power Connection", 4 GND (power) "Ground Connection.", 5 GND (power) "Ground Connection.", 8 GND (power) "Ground Connection.", 9 VDD (power) "Power Connection", 13 GND (power) "Ground Connection.", 16 VDD (power) "Power Connection", 17 GND (power) "Ground Connection.", 21 GND (power) "Ground Connection.", 22 VDD (power) "Power Connection"

## W134SHT
designator U?
Direct Rambus(TM) Clock Generator, 3.3 V, 25 to 400 MHz Output, 0 to 70 degC, 24-pin SOP, Tape and Reel; Manufacturer: Silicon Labs; PartNumber: W134SHT; Output Format: RSL; Phase Jitter (RMS): > 1 ps; Reference Inputs: 1; VDD: 3.3 V; Sub-Family: Clock Generators; DatasheetVersion: Rev. *C; PackageReference: QSOP-24; PackageDescription: 24-Pin Quarter-Size Small-Outline Package, Body 8.65 x 3.9 mm, Pitch 0.635 mm; Supplier 1: Digi-Key; Supplier Part Number 1: W134SHT-ND; Supplier 2: Mouser; Supplier Part Number 2: 634-W134SHT; Output Frequency (MHz): 25 to 400; Packing: Tape and Reel; Mounting Technology: Surface Mount; ComponentLink1Description: Manufacturer URL; ComponentLink1URL: http://www.silabs.com/; ComponentLink2Description: Datasheet; ComponentLink2URL: http://www.silabs.com/Support%20Documents/TechnicalDocs/W134.pdf; ComponentLink3Description: Package Specification; ComponentLink3URL: http://www.silabs.com/Support%20Documents/TechnicalDocs/W134.pdf
footprint SLAB-QSOP-24_A_N (SOP, 24-Leads, Body 8.7x4mm, Pitch 0.635mm, IPC Medium Density)
footprint SLAB-QSOP-24_A_L (SOP, 24-Leads, Body 8.7x4mm, Pitch 0.635mm, IPC High Density)
footprint SLAB-QSOP-24_A_M (SOP, 24-Leads, Body 8.7x4mm, Pitch 0.635mm, IPC Low Density)
part A pins: 1 VDDIR (in) "Reference for REFCLK.", 2 REFCLK (in) "Reference Clock Input.", 6 PCLKM (in) "Phase Detector Input.", 7 SYNCLKN (in) "Phase Detector Input", 10 VDDIPD (in) "Reference for Phase Detector.", 11 STOPB (in) "Clock Output Enable.", 12 PWRDNB (in) "Active LOW Power-down.", 14 MULT1 (in) "PLL Multiplier Select.", 15 MULT0 (in) "PLL Multiplier Select.", 18 CLKB (hiz) "Complementary Output Clock", 19 NC "No Connect", 20 CLK (hiz) "Complementary Output Clock", 23 S1 (in) "Mode Control Input", 24 S0 (in) "Mode Control Input"
part B pins: 3 VDD (power) "Power Connection", 4 GND (power) "Ground Connection.", 5 GND (power) "Ground Connection.", 8 GND (power) "Ground Connection.", 9 VDD (power) "Power Connection", 13 GND (power) "Ground Connection.", 16 VDD (power) "Power Connection", 17 GND (power) "Ground Connection.", 21 GND (power) "Ground Connection.", 22 VDD (power) "Power Connection"

## W158H
designator U?
Spread Spectrum System Frequency Synthesizer, 3.3 V, 133 MHz Max Output, 0 to 70 degC, 56-pin SOP; Manufacturer: Silicon Labs; PartNumber: W158H; Output Format: LVCMOS; Output Frequency (MHz): 14.318; 16.67; 33; 48; 66; 100; 133; Reference Inputs: 1; VDD: 3.3 V; Sub-Family: Clock Generators part2; DatasheetVersion: Rev. *A; PackageReference: SSOP-56; PackageDescription: 56-Pin Shrink Small-Outline Package, Body 18.415 x 7.51 mm, Pitch 0.635 mm; Supplier 1: Digi-Key; Supplier Part Number 1: W158H-ND; Supplier 2: Mouser; Supplier Part Number 2: 634-W158H; Mounting Technology: Surface Mount; ComponentLink1Description: Manufacturer URL; ComponentLink1URL: http://www.silabs.com/; ComponentLink2Description: Datasheet; ComponentLink2URL: http://www.silabs.com/Support%20Documents/TechnicalDocs/W158.pdf; ComponentLink3Description: Package Specification; ComponentLink3URL: http://www.silabs.com/Support%20Documents/TechnicalDocs/W158.pdf
footprint SLAB-SSOP-56_N (SOP, 56-Leads, Body 18.5x7.6mm, Pitch 0.635mm, IPC Medium Density)
footprint SLAB-SSOP-56_L (SOP, 56-Leads, Body 18.5x7.6mm, Pitch 0.635mm, IPC High Density)
footprint SLAB-SSOP-56_M (SOP, 56-Leads, Body 18.5x7.6mm, Pitch 0.635mm, IPC Low Density)
part A pins: 2 REF0 (hiz) "14.318-MHz Reference Clock Output", 3 REF1 (hiz) "14.318-MHz Reference Clock Output", 5 X1 (in) "Crystal Connection or External Reference Frequency Input", 6 X2 "Crystal Connection", 8 PCI_F (hiz) "PCI_F (PCI Free-running)", 9 PCI1 (hiz) "PCI Clock Output 1", 11 PCI2 (hiz) "PCI Clock Output 2", 12 PCI3 (hiz) "PCI Clock Output 3", 14 PCI4 (hiz) "PCI Clock Output 4", 15 PCI5 (hiz) "PCI Clock Output 5", 17 PCI6 (hiz) "PCI Clock Output 6", 18 PCI7 (hiz) "PCI Clock Output 7", 28 SEL133/100# (in) "Frequency Selection Input", 30 48MHz (hiz) "48-MHz Output", 32 SEL0 (in) "Mode Select Input 0", 33 SEL1 (in) "Mode Select Input 1", 34 SPREAD# (in) "Active LOW Spread Spectrum Enable", 35 PWRDWN# (in) "Active LOW Power Down Input", 36 CPU_STOP# (in) "Active LOW CPU Clock Stop", 37 PCI_STOP# (in) "Active LOW PCI Clock Stop", 41 CPU0 (hiz) "CPU Clock Output 0", 42 CPU1 (hiz) "CPU Clock Output 1", 45 CPU2 (hiz) "CPU Clock Output 2", 46 CPU3 (hiz) "CPU Clock Output 3", 49 CPUDIV2_0 (hiz) "Synchronous Memory Reference Clock Output 0", 50 CPUDIV2_1 (hiz) "Synchronous Memory Reference Clock Output 1", 53 IOAPIC0 (hiz) "I/O APIC Clock Output", 54 IOAPIC1 (hiz) "I/O APIC Clock Output", 55 IOAPIC2 (hiz) "I/O APIC Clock Output"
part B pins: 1 GND (power) "Ground Connection", 4 VDDQ3 (power) "Power Connection", 7 GND (power) "Ground Connection", 10 VDDQ3 (power) "Power Connection", 13 GND (power) "Ground Connection", 16 VDDQ3 (power) "Power Connection", 19 GND (power) "Ground Connection", 20 GND (power) "Ground Connection", 21 3V66_0 (hiz) "66-MHz Output 0", 22 3V66_1 (hiz) "66-MHz Output 1", 23 VDDQ3 (power) "Power Connection", 24 GND (power) "Ground Connection", 25 3V66_2 (hiz) "66-MHz Output 2", 26 3V66_3 (hiz) "66-MHz Output 3", 27 VDDQ3 (power) "Power Connection", 29 GND (power) "Ground Connection", 31 VDDQ3 (power) "Power Connection", 38 GND (power) "Ground Connection", 39 VDDQ3 (power) "Power Connection", 40 GND (power) "Ground Connection", 43 VDDQ2 (power) "Power Connection", 44 GND (power) "Ground Connection", 47 VDDQ2 (power) "Power Connection", 48 GND (power) "Ground Connection", 51 VDDQ2 (power) "Power Connection", 52 GND (power) "Ground Connection", 56 VDDQ2 (power) "Power Connection"

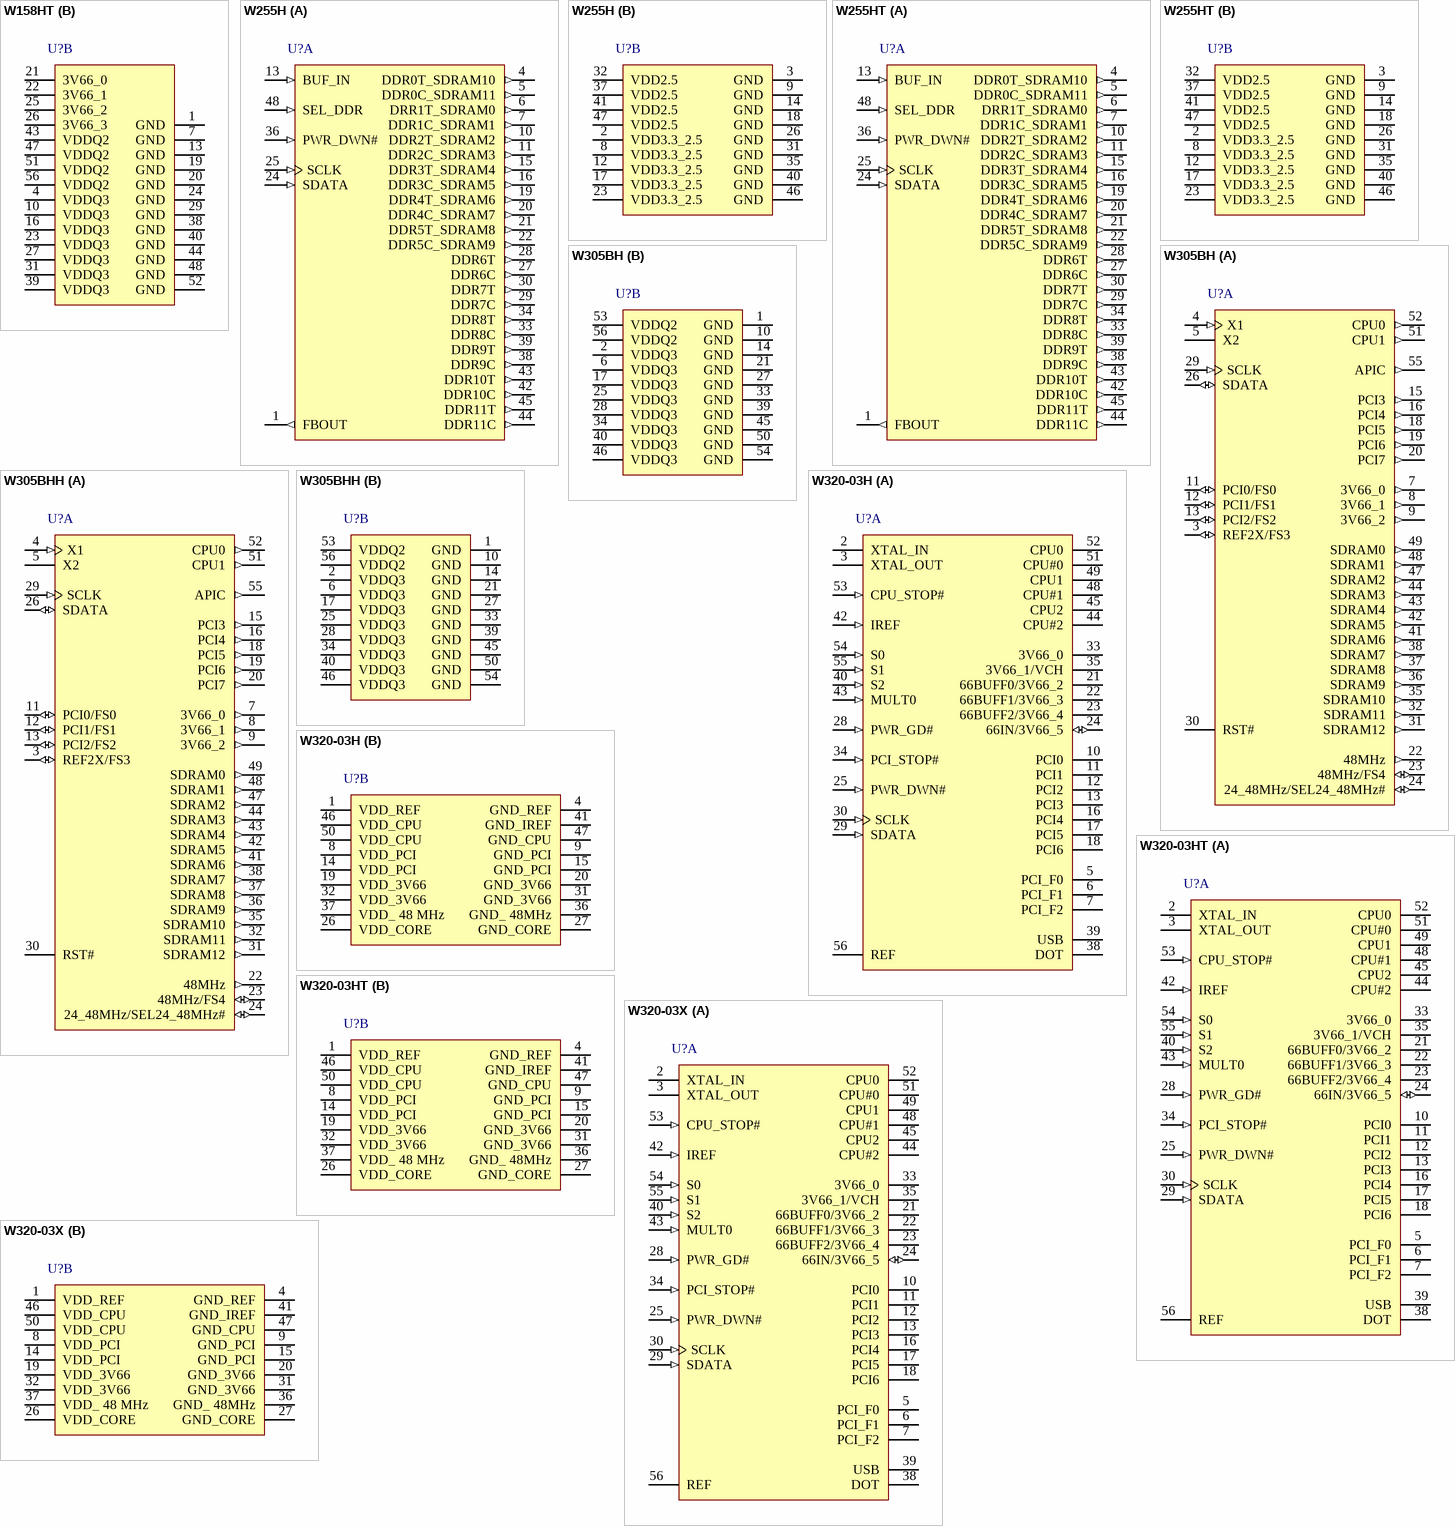
[diagram p43: symbols W158HT to W320-03X]